# Altium schematic symbol library Конденсаторы XY.SchLib: 1 symbol
Pins are listed as number, name and electrical type; pins without a type are passive.

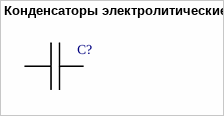
[diagram p0: symbol Конденсаторы электролитические]

## Конденсаторы электролитические
designator C?
pins: 1, 2